# Altium schematic symbol library IC.SchLib: 63 symbols
Pins are listed as number, name and electrical type; pins without a type are passive.

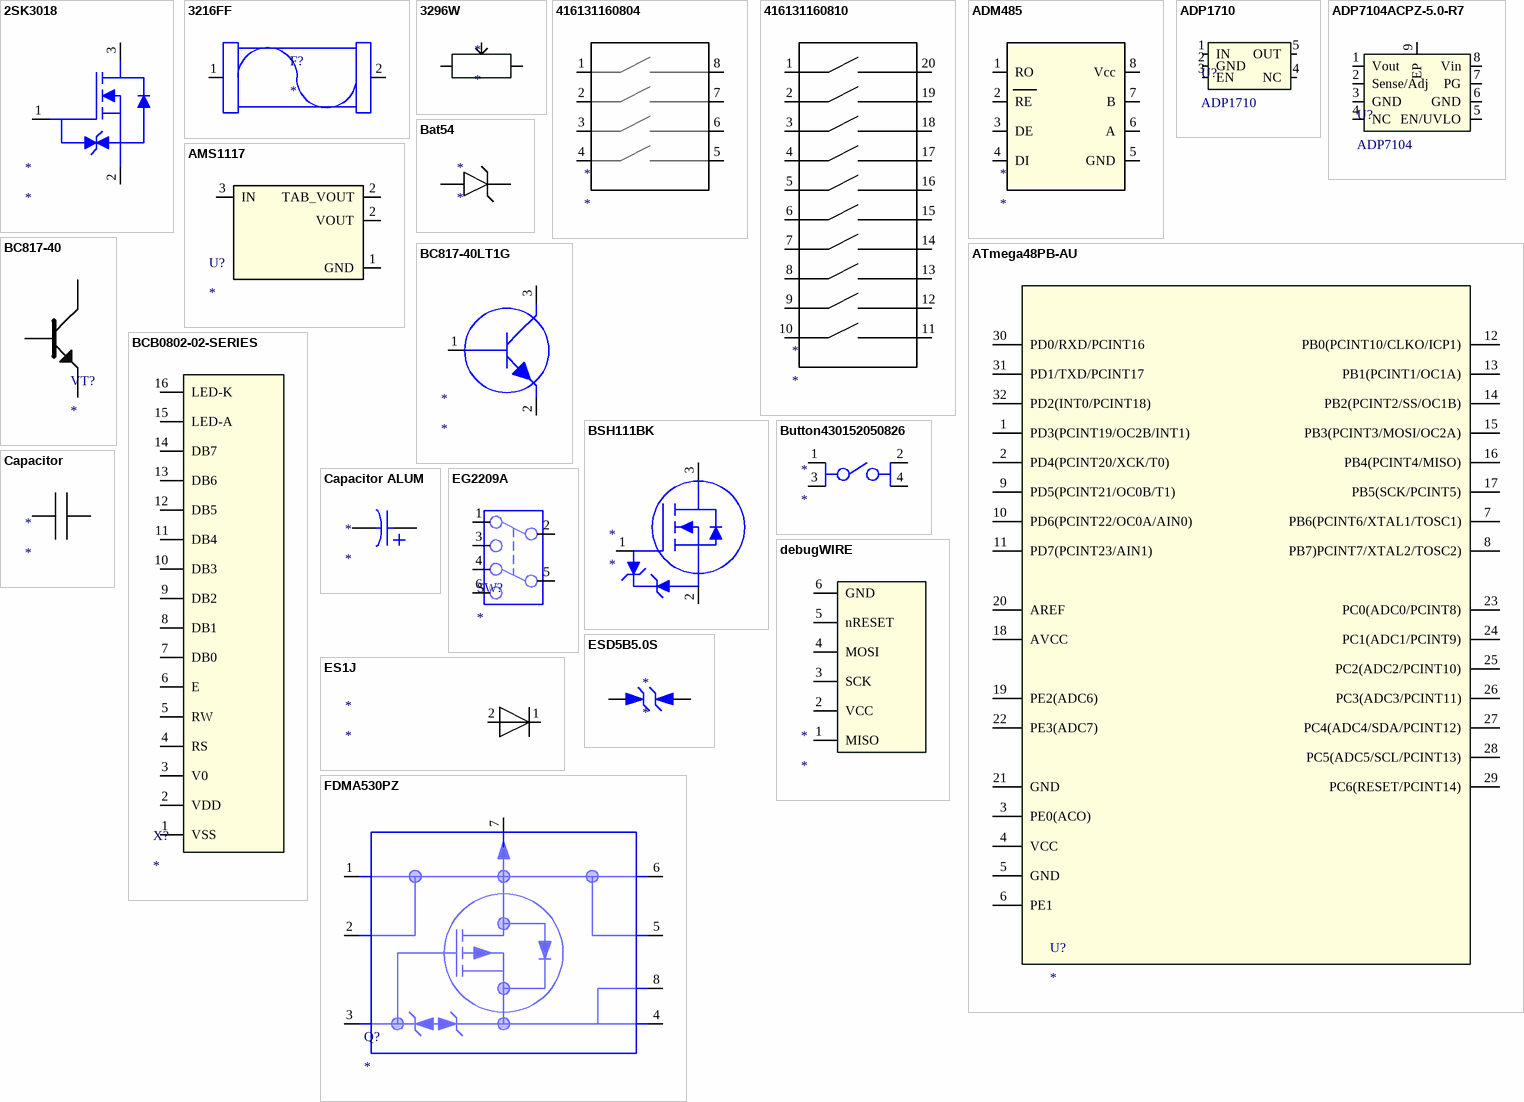
[diagram p0: symbols 2SK3018 to FDMA530PZ]

## 2SK3018
designator *
footprint SOT323 (SOT323, 3-Leads, Body 2,00x2,10mm, Pitch 0,65mm, IPC Medium Density)
pins: 1, 2, 3

## 3216FF
designator F?
footprint 3216FF5-R
pins: 1, 2

## 3296W
designator *
footprint 3296W
pins: 1 a, 2 a, 3 a

## 416131160804
designator *
footprint 416131160804
pins: 1, 2, 3, 4, 5, 6, 7, 8

## 416131160810
designator *
footprint 416131160810
pins: 1, 2, 3, 4, 5, 6, 7, 8, 9, 10, 11, 12, 13, 14, 15, 16, 17, 18, 19, 20

## ADM485
designator *
footprint SO-8
pins: 1 RO, 2 RE, 3 DE, 4 DI, 5 GND, 6 A, 7 B, 8 Vcc

## ADP1710
designator U?
CMOS Linear Regulator
footprint TSOT-5
pins: 1 IN, 2 GND, 3 EN, 4 NC, 5 OUT

## ADP7104ACPZ-5.0-R7
designator U?, comment ADP7104
footprint 8-Lead LFCSP_WD (SON, 8-Leads, Body 3x3mm, Pitch 0.5mm, Thermal Pad 1.74x2.38mm)
pins: 1 Vout, 2 Sense/Adj, 3 GND, 4 NC, 5 EN/UVLO, 6 GND, 7 PG, 8 Vin, 9 EP

## AMS1117
designator U?
footprint SOT223
pins: 1 GND, 2 VOUT, 2 TAB_VOUT, 3 IN

## ATmega48PB-AU
designator U?
footprint TQFP32 (Thin QFP, 32-Leads, Body 7x7mm, Pitch 0.8mm, IPC Low Density)
pins: 1 PD3(PCINT19/OC2B/INT1) "(PCINT19/OC2B/INT1)PD3", 2 PD4(PCINT20/XCK/T0), 3 PE0(ACO), 4 VCC, 5 GND, 6 PE1, 7 PB6(PCINT6/XTAL1/TOSC1), 8 PB7)PCINT7/XTAL2/TOSC2), 9 PD5(PCINT21/OC0B/T1), 10 PD6(PCINT22/OC0A/AIN0), 11 PD7(PCINT23/AIN1), 12 PB0(PCINT10/CLKO/ICP1), 13 PB1(PCINT1/OC1A), 14 PB2(PCINT2/SS/OC1B), 15 PB3(PCINT3/MOSI/OC2A), 16 PB4(PCINT4/MISO), 17 PB5(SCK/PCINT5), 18 AVCC, 19 PE2(ADC6), 20 AREF, 21 GND, 22 PE3(ADC7), 23 PC0(ADC0/PCINT8), 24 PC1(ADC1/PCINT9), 25 PC2(ADC2/PCINT10), 26 PC3(ADC3/PCINT11), 27 PC4(ADC4/SDA/PCINT12), 28 PC5(ADC5/SCL/PCINT13), 29 PC6(RESET/PCINT14), 30 PD0/RXD/PCINT16, 31 PD1/TXD/PCINT17, 32 PD2(INT0/PCINT18)

## Bat54
designator *
footprint SOT23-3 (SOT23, 3 pin)
pins: 1 3, 3 4

## BC817-40
designator VT?
footprint SOT23-3 (SOT23, 3 pin)
pins: 1 BASE, 2 Emitter, 3 Collector

## BC817-40LT1G
designator *
footprint SOT23-3 (SOT23, 3 pin)
pins: 1 BASE, 2 EMITTER, 3 COLLECTOR

## BCB0802-02-SERIES
designator X?
footprint Blaze display
pins: 1 VSS, 2 VDD, 3 V0, 4 RS, 5 RW, 6 E, 7 DB0, 8 DB1, 9 DB2, 10 DB3, 11 DB4, 12 DB5, 13 DB6, 14 DB7, 15 LED-A, 16 LED-K

## BSH111BK
designator *
footprint SOT23-3 (SOT23, 3 pin)
pins: 1, 2, 3

## Button430152050826
designator *
footprint WS-TASV SMT TACT SWITCH
pins: 1, 2, 3, 4

## Capacitor
designator *
footprint Cap0603
footprint Cap1210
footprint Cap0805
footprint Cap1206
footprint T495C686M016ATE250
footprint cap0402
pins: 1, 2

## Capacitor ALUM
designator *
footprint EEE-1EA471UAP
footprint T495C686M016ZTE250
pins: 1, 2

## debugWIRE
designator *
footprint debugWIRE
pins: 1 MISO, 2 VCC, 3 SCK, 4 MOSI, 5 nRESET, 6 GND

## EG2209A
designator SW?
footprint EG 2209
pins: 1, 2, 3, 4, 5, 6

## ES1J
designator *
footprint ES1J
pins: 1 C, 2 A

## ESD5B5.0S
designator *
footprint SOD-523
pins: A 2, C 1

## FDMA530PZ
designator Q?
footprint WDFN6
pins: 1, 2, 3, 4, 5, 6, 7, 8

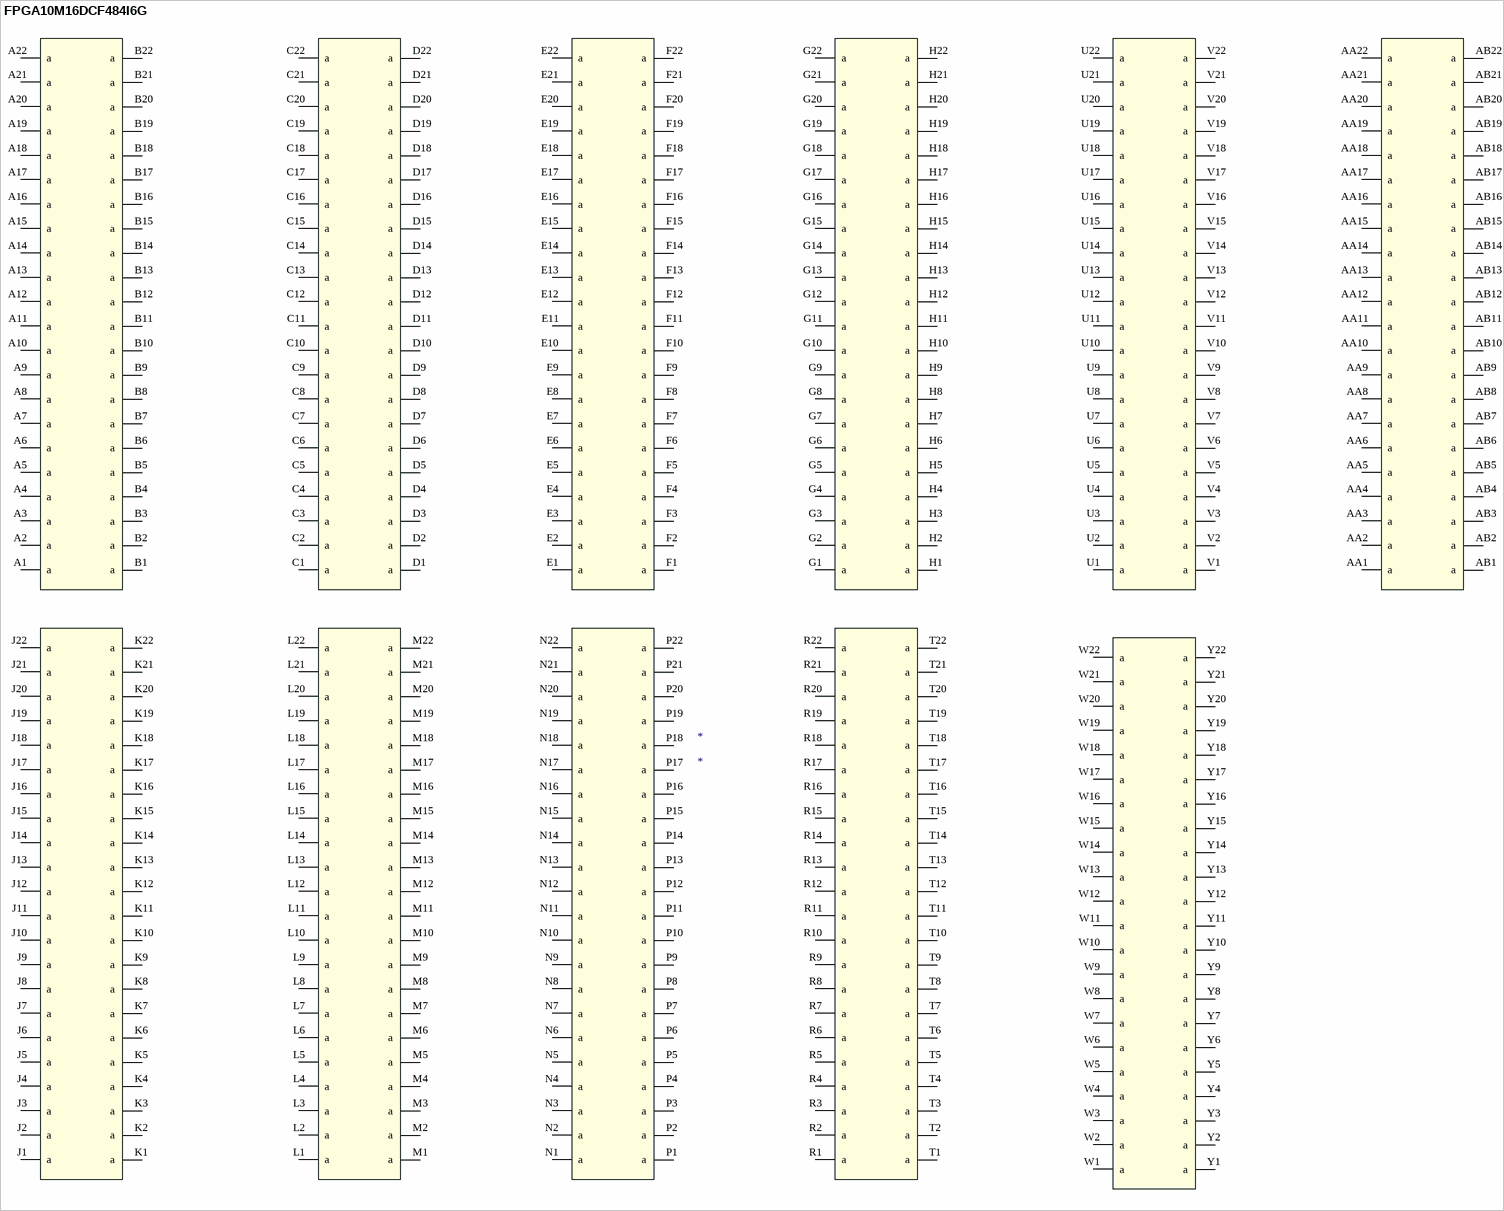
[diagram p1: symbol FPGA10M16DCF484I6G]

## FPGA10M16DCF484I6G
designator *
footprint 484-Pin FBGA
pins: A1 a, A2 a, A3 a, A4 a, A5 a, A6 a, A7 a, A8 a, A9 a, A10 a, A11 a, A12 a, A13 a, A14 a, A15 a, A16 a, A17 a, A18 a, A19 a, A20 a, A21 a, A22 a, AA1 a, AA2 a, AA3 a, AA4 a, AA5 a, AA6 a, AA7 a, AA8 a, AA9 a, AA10 a, AA11 a, AA12 a, AA13 a, AA14 a, AA15 a, AA16 a, AA17 a, AA18 a, AA19 a, AA20 a, AA21 a, AA22 a, AB1 a, AB2 a, AB3 a, AB4 a, AB5 a, AB6 a, AB7 a, AB8 a, AB9 a, AB10 a, AB11 a, AB12 a, AB13 a, AB14 a, AB15 a, AB16 a, AB17 a, AB18 a, AB19 a, AB20 a, AB21 a, AB22 a, B1 a, B2 a, B3 a, B4 a, B5 a, B6 a, B7 a, B8 a, B9 a, B10 a, B11 a, B12 a, B13 a, B14 a, B15 a, B16 a, B17 a, B18 a, B19 a, B20 a, B21 a, B22 a, C1 a, C2 a, C3 a, C4 a, C5 a, C6 a, C7 a, C8 a, C9 a, C10 a, C11 a, C12 a, C13 a, C14 a, C15 a, C16 a, C17 a, C18 a, C19 a, C20 a, C21 a, C22 a, D1 a, D2 a, D3 a, D4 a, D5 a, D6 a, D7 a, D8 a, D9 a, D10 a, D11 a, D12 a, D13 a, D14 a, D15 a, D16 a, D17 a, D18 a, D19 a, D20 a, D21 a, D22 a, E1 a, E2 a, E3 a, E4 a, E5 a, E6 a, E7 a, E8 a, E9 a, E10 a, E11 a, E12 a, E13 a, E14 a, E15 a, E16 a, E17 a, E18 a, E19 a, E20 a, E21 a, E22 a, F1 a, F2 a, F3 a, F4 a, F5 a, F6 a, F7 a, F8 a, F9 a, F10 a, F11 a, F12 a, F13 a, F14 a, F15 a, F16 a, F17 a, F18 a, F19 a, F20 a, F21 a, F22 a, G1 a, G2 a, G3 a, G4 a, G5 a, G6 a, G7 a, G8 a, G9 a, G10 a, G11 a, G12 a, G13 a, G14 a, G15 a, G16 a, G17 a, G18 a, G19 a, G20 a, G21 a, G22 a, H1 a, H2 a, H3 a, H4 a, H5 a, H6 a, H7 a, H8 a, H9 a, H10 a, H11 a, H12 a, H13 a, H14 a, H15 a, H16 a, H17 a, H18 a, H19 a, H20 a, H21 a, H22 a, J1 a, J2 a, J3 a, J4 a, J5 a, J6 a, J7 a, J8 a, J9 a, J10 a, J11 a, J12 a, J13 a, J14 a, J15 a, J16 a, J17 a, J18 a, J19 a, J20 a, J21 a, J22 a, K1 a, K2 a, K3 a, K4 a, K5 a, K6 a, K7 a, K8 a, K9 a, K10 a, K11 a, K12 a, K13 a, K14 a, K15 a, K16 a, K17 a, K18 a, K19 a, K20 a, K21 a, K22 a, L1 a, L2 a, L3 a, L4 a, L5 a, L6 a, L7 a, L8 a, L9 a, L10 a, L11 a, L12 a, L13 a, L14 a, L15 a, L16 a, L17 a, L18 a, L19 a, L20 a, L21 a, L22 a, M1 a, M2 a, M3 a, M4 a, M5 a, M6 a, M7 a, M8 a, M9 a, M10 a, M11 a, M12 a, M13 a, M14 a, M15 a, M16 a, M17 a, M18 a, M19 a, M20 a, M21 a, M22 a, N1 a, N2 a, N3 a, N4 a, N5 a, N6 a, N7 a, N8 a, N9 a, N10 a, N11 a, N12 a, N13 a, N14 a, N15 a, N16 a, N17 a, N18 a, N19 a, N20 a, N21 a, N22 a, P1 a, P2 a, P3 a, P4 a, P5 a, P6 a, P7 a, P8 a, P9 a, P10 a, P11 a, P12 a, P13 a, P14 a, P15 a, P16 a, P17 a, P18 a, P19 a, P20 a, P21 a, P22 a, R1 a, R2 a, R3 a, R4 a, R5 a, R6 a, R7 a, R8 a, R9 a, R10 a, R11 a, R12 a, R13 a, R14 a, R15 a, R16 a, R17 a, R18 a, R19 a, R20 a, R21 a, R22 a, T1 a, T2 a, T3 a, T4 a, T5 a, T6 a, T7 a, T8 a, T9 a, T10 a, T11 a, T12 a, T13 a, T14 a, T15 a, T16 a, T17 a, T18 a, T19 a, T20 a, T21 a, T22 a, U1 a, U2 a, U3 a, U4 a, U5 a, U6 a, U7 a, U8 a, U9 a, U10 a, U11 a, U12 a, U13 a, U14 a, U15 a, U16 a, U17 a, U18 a, U19 a, U20 a, U21 a, U22 a, V1 a, V2 a, V3 a, V4 a, V5 a, V6 a, V7 a, V8 a, V9 a, V10 a, V11 a, V12 a, V13 a, V14 a, V15 a, V16 a, V17 a, V18 a, V19 a, V20 a, V21 a, V22 a, W1 a, W2 a, W3 a, W4 a, W5 a, W6 a, W7 a, W8 a, W9 a, W10 a, W11 a, W12 a, W13 a, W14 a, W15 a, W16 a, W17 a, W18 a, W19 a, W20 a, W21 a, W22 a, Y1 a, Y2 a, Y3 a, Y4 a, Y5 a, Y6 a, Y7 a, Y8 a, Y9 a, Y10 a, Y11 a, Y12 a, Y13 a, Y14 a, Y15 a, Y16 a, Y17 a, Y18 a, Y19 a, Y20 a, Y21 a, Y22 a

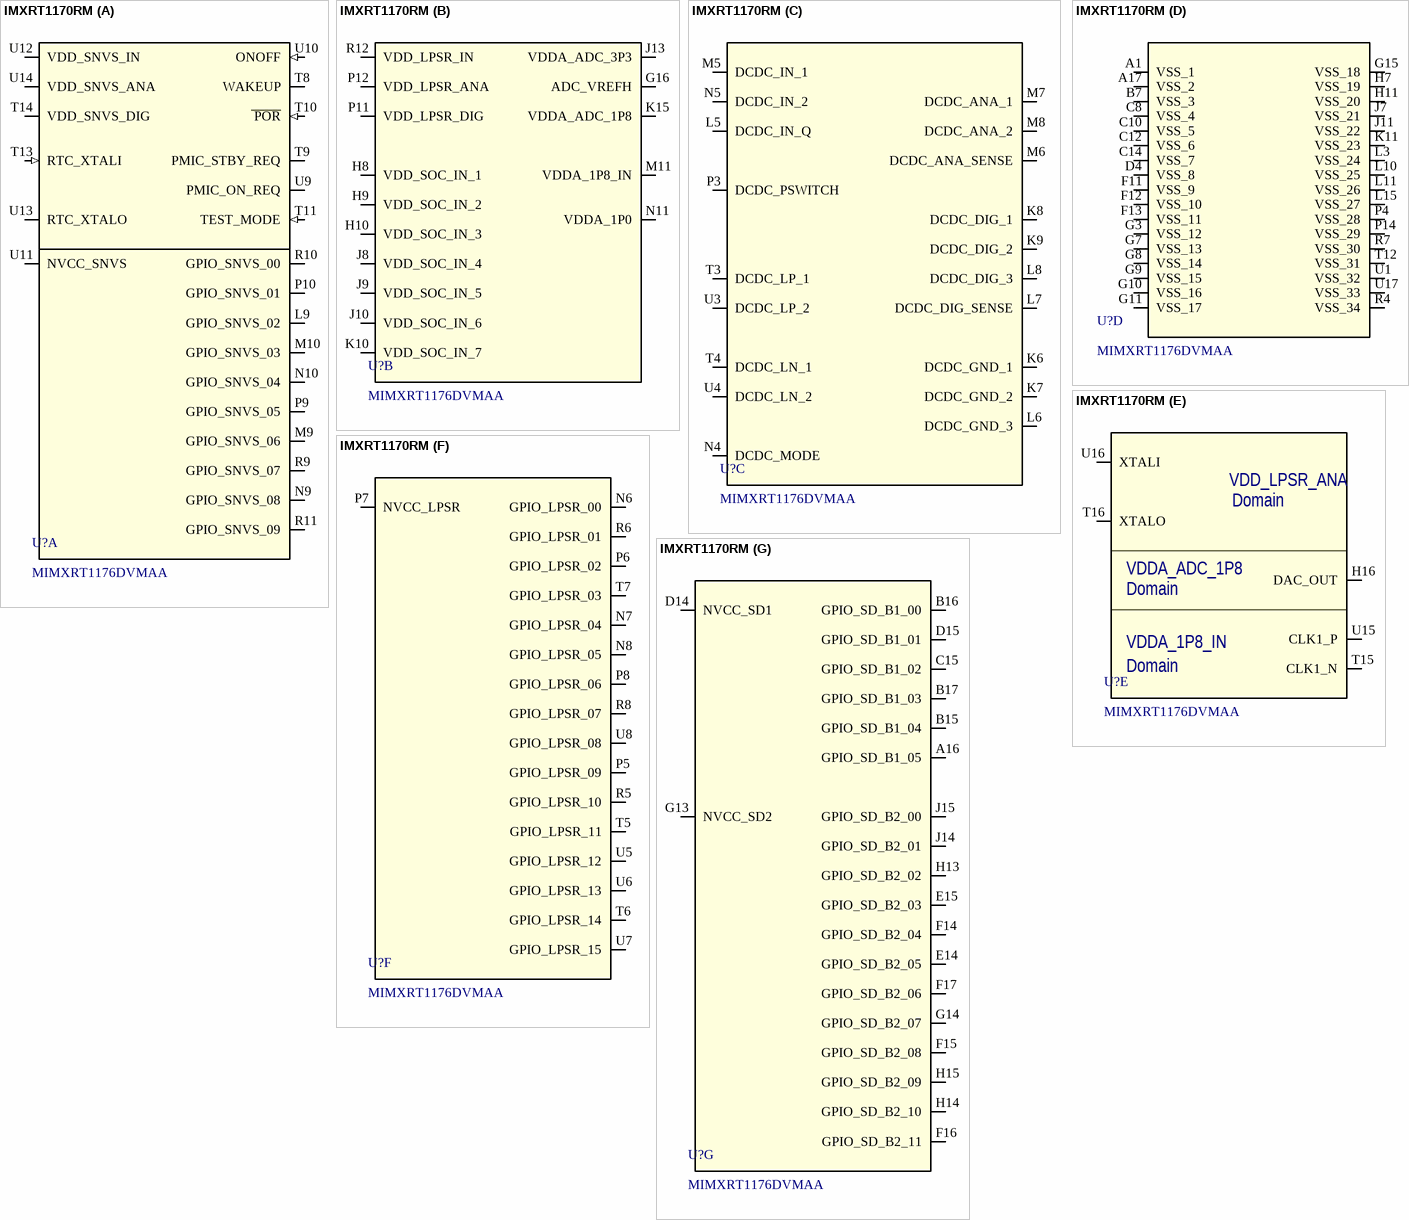
[diagram p2: symbol IMXRT1170RM]

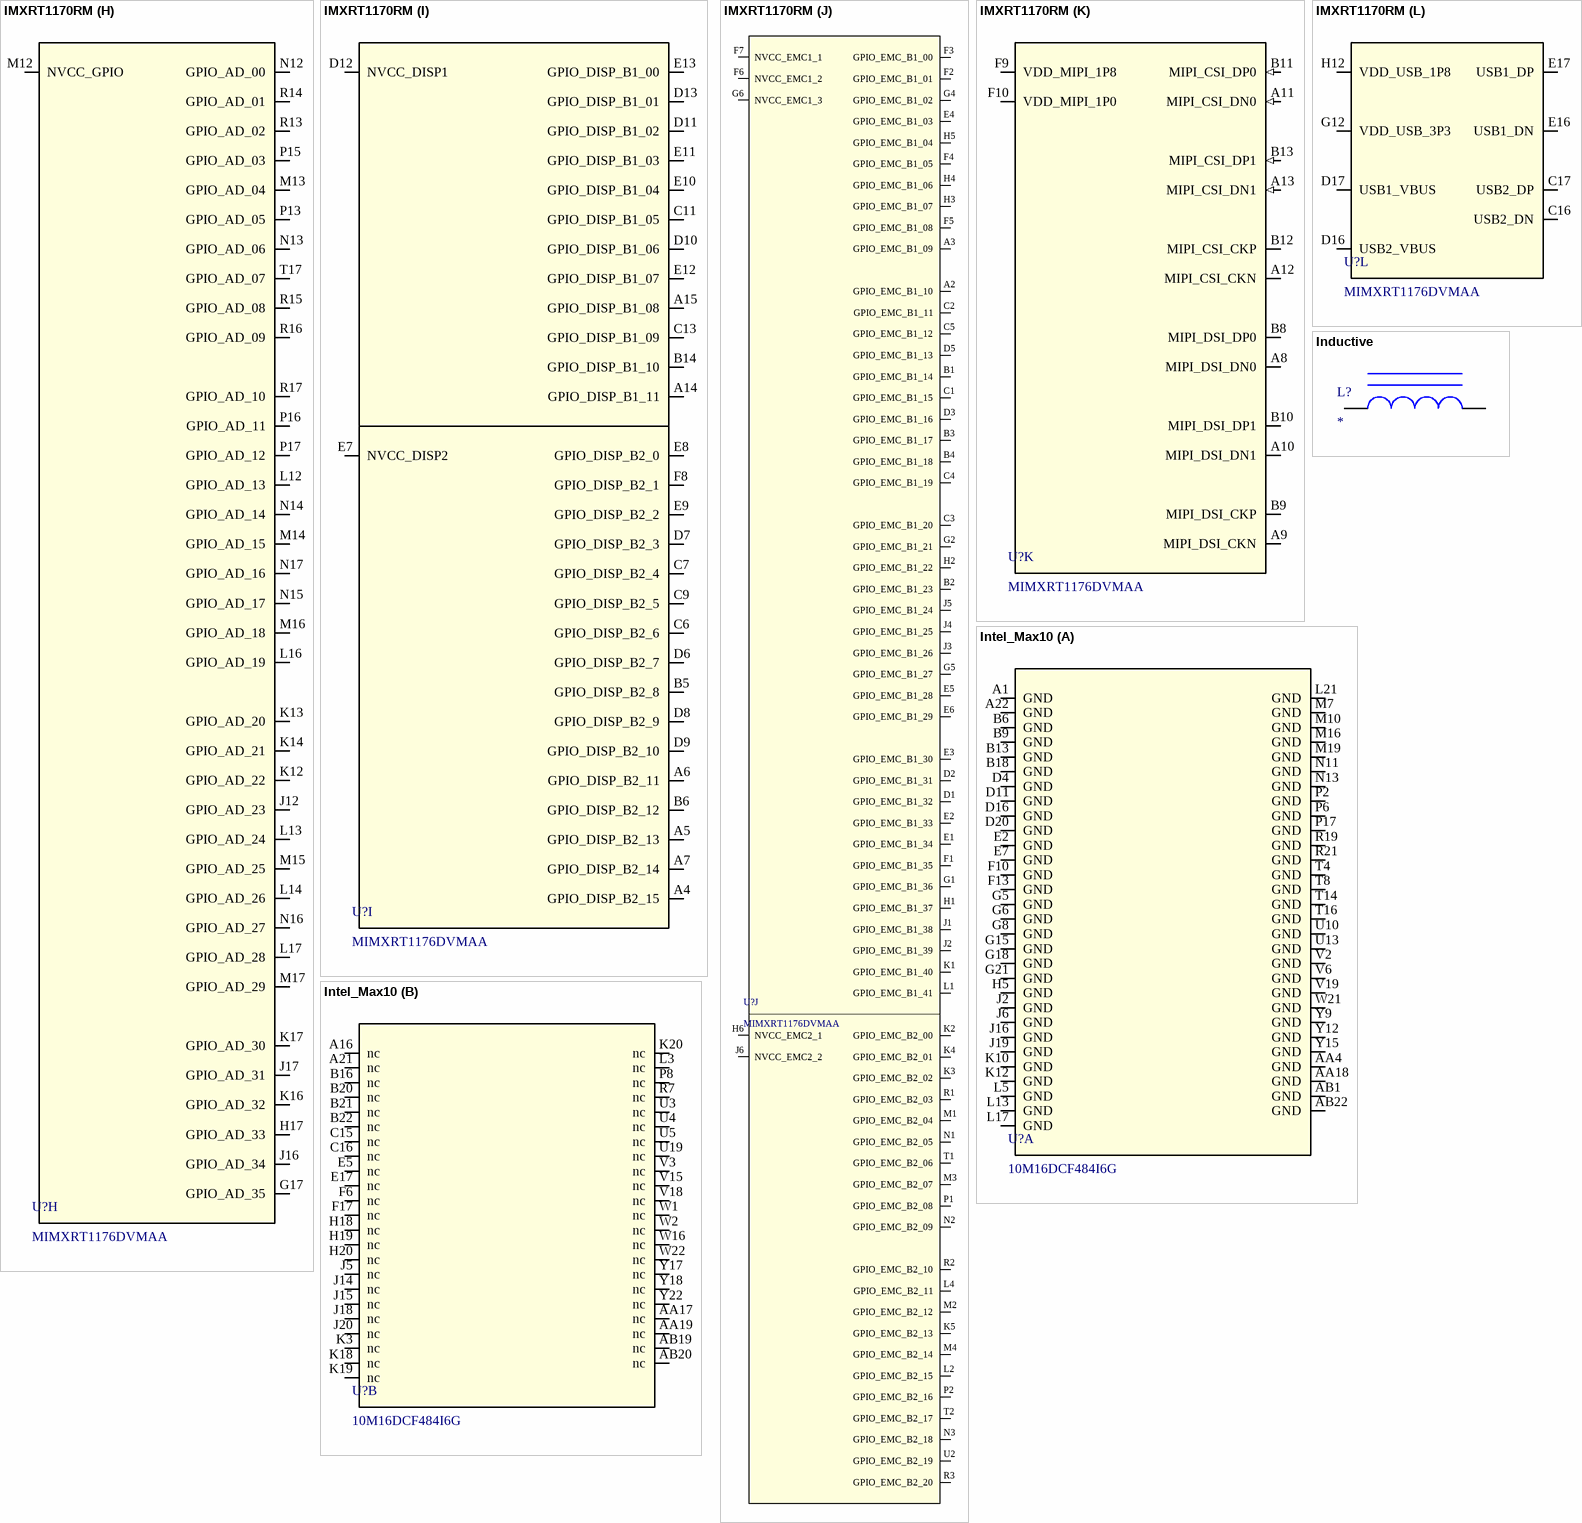
[diagram p3: symbols IMXRT1170RM to Intel_Max10]

## IMXRT1170RM
designator U?, comment MIMXRT1176DVMAA
footprint LFBGA289
part A pins: L9 GPIO_SNVS_02, M9 GPIO_SNVS_06, M10 GPIO_SNVS_03, N9 GPIO_SNVS_08, N10 GPIO_SNVS_04, P9 GPIO_SNVS_05, P10 GPIO_SNVS_01, R9 GPIO_SNVS_07, R10 GPIO_SNVS_00, R11 GPIO_SNVS_09, T8 WAKEUP, T9 PMIC_STBY_REQ, T10 POR (in), T11 TEST_MODE (in), T13 RTC_XTALI (in), T14 VDD_SNVS_DIG, U9 PMIC_ON_REQ, U10 ONOFF (in), U11 NVCC_SNVS, U12 VDD_SNVS_IN, U13 RTC_XTALO, U14 VDD_SNVS_ANA
part B pins: G16 ADC_VREFH, H8 VDD_SOC_IN_1, H9 VDD_SOC_IN_2, H10 VDD_SOC_IN_3, J8 VDD_SOC_IN_4, J9 VDD_SOC_IN_5, J10 VDD_SOC_IN_6, J13 VDDA_ADC_3P3, K10 VDD_SOC_IN_7, K15 VDDA_ADC_1P8, M11 VDDA_1P8_IN, N11 VDDA_1P0, P11 VDD_LPSR_DIG, P12 VDD_LPSR_ANA, R12 VDD_LPSR_IN
part C pins: K6 DCDC_GND_1, K7 DCDC_GND_2, K8 DCDC_DIG_1, K9 DCDC_DIG_2, L5 DCDC_IN_Q, L6 DCDC_GND_3, L7 DCDC_DIG_SENSE, L8 DCDC_DIG_3, M5 DCDC_IN_1, M6 DCDC_ANA_SENSE, M7 DCDC_ANA_1, M8 DCDC_ANA_2, N4 DCDC_MODE, N5 DCDC_IN_2, P3 DCDC_PSWITCH, T3 DCDC_LP_1, T4 DCDC_LN_1, U3 DCDC_LP_2, U4 DCDC_LN_2
part D pins: A1 VSS_1, A17 VSS_2, B7 VSS_3, C8 VSS_4, C10 VSS_5, C12 VSS_6, C14 VSS_7, D4 VSS_8, F11 VSS_9, F12 VSS_10, F13 VSS_11, G3 VSS_12, G7 VSS_13, G8 VSS_14, G9 VSS_15, G10 VSS_16, G11 VSS_17, G15 VSS_18, H7 VSS_19, H11 VSS_20, J7 VSS_21, J11 VSS_22, K11 VSS_23, L3 VSS_24, L10 VSS_25, L11 VSS_26, L15 VSS_27, P4 VSS_28, P14 VSS_29, R4 VSS_34, R7 VSS_30, T12 VSS_31, U1 VSS_32, U17 VSS_33
part E pins: H16 DAC_OUT, T15 CLK1_N, T16 XTALO, U15 CLK1_P, U16 XTALI
part F pins: N6 GPIO_LPSR_00, N7 GPIO_LPSR_04, N8 GPIO_LPSR_05, P5 GPIO_LPSR_09, P6 GPIO_LPSR_02, P7 NVCC_LPSR, P8 GPIO_LPSR_06, R5 GPIO_LPSR_10, R6 GPIO_LPSR_01, R8 GPIO_LPSR_07, T5 GPIO_LPSR_11, T6 GPIO_LPSR_14, T7 GPIO_LPSR_03, U5 GPIO_LPSR_12, U6 GPIO_LPSR_13, U7 GPIO_LPSR_15, U8 GPIO_LPSR_08
part G pins: A16 GPIO_SD_B1_05, B15 GPIO_SD_B1_04, B16 GPIO_SD_B1_00, B17 GPIO_SD_B1_03, C15 GPIO_SD_B1_02, D14 NVCC_SD1, D15 GPIO_SD_B1_01, E14 GPIO_SD_B2_05, E15 GPIO_SD_B2_03, F14 GPIO_SD_B2_04, F15 GPIO_SD_B2_08, F16 GPIO_SD_B2_11, F17 GPIO_SD_B2_06, G13 NVCC_SD2, G14 GPIO_SD_B2_07, H13 GPIO_SD_B2_02, H14 GPIO_SD_B2_10, H15 GPIO_SD_B2_09, J14 GPIO_SD_B2_01, J15 GPIO_SD_B2_00
part H pins: G17 GPIO_AD_35, H17 GPIO_AD_33, J12 GPIO_AD_23, J16 GPIO_AD_34, J17 GPIO_AD_31, K12 GPIO_AD_22, K13 GPIO_AD_20, K14 GPIO_AD_21, K16 GPIO_AD_32, K17 GPIO_AD_30, L12 GPIO_AD_13, L13 GPIO_AD_24, L14 GPIO_AD_26, L16 GPIO_AD_19, L17 GPIO_AD_28, M12 NVCC_GPIO, M13 GPIO_AD_04, M14 GPIO_AD_15, M15 GPIO_AD_25, M16 GPIO_AD_18, M17 GPIO_AD_29, N12 GPIO_AD_00, N13 GPIO_AD_06, N14 GPIO_AD_14, N15 GPIO_AD_17, N16 GPIO_AD_27, N17 GPIO_AD_16, P13 GPIO_AD_05, P15 GPIO_AD_03, P16 GPIO_AD_11, P17 GPIO_AD_12, R13 GPIO_AD_02, R14 GPIO_AD_01, R15 GPIO_AD_08, R16 GPIO_AD_09, R17 GPIO_AD_10, T17 GPIO_AD_07
part I pins: A4 GPIO_DISP_B2_15, A5 GPIO_DISP_B2_13, A6 GPIO_DISP_B2_11, A7 GPIO_DISP_B2_14, A14 GPIO_DISP_B1_11, A15 GPIO_DISP_B1_08, B5 GPIO_DISP_B2_8, B6 GPIO_DISP_B2_12, B14 GPIO_DISP_B1_10, C6 GPIO_DISP_B2_6, C7 GPIO_DISP_B2_4, C9 GPIO_DISP_B2_5, C11 GPIO_DISP_B1_05, C13 GPIO_DISP_B1_09, D6 GPIO_DISP_B2_7, D7 GPIO_DISP_B2_3, D8 GPIO_DISP_B2_9, D9 GPIO_DISP_B2_10, D10 GPIO_DISP_B1_06, D11 GPIO_DISP_B1_02, D12 NVCC_DISP1, D13 GPIO_DISP_B1_01, E7 NVCC_DISP2, E8 GPIO_DISP_B2_0, E9 GPIO_DISP_B2_2, E10 GPIO_DISP_B1_04, E11 GPIO_DISP_B1_03, E12 GPIO_DISP_B1_07, E13 GPIO_DISP_B1_00, F8 GPIO_DISP_B2_1
part J pins: A2 GPIO_EMC_B1_10, A3 GPIO_EMC_B1_09, B1 GPIO_EMC_B1_14, B2 GPIO_EMC_B1_23, B3 GPIO_EMC_B1_17, B4 GPIO_EMC_B1_18, C1 GPIO_EMC_B1_15, C2 GPIO_EMC_B1_11, C3 GPIO_EMC_B1_20, C4 GPIO_EMC_B1_19, C5 GPIO_EMC_B1_12, D1 GPIO_EMC_B1_32, D2 GPIO_EMC_B1_31, D3 GPIO_EMC_B1_16, D5 GPIO_EMC_B1_13, E1 GPIO_EMC_B1_34, E2 GPIO_EMC_B1_33, E3 GPIO_EMC_B1_30, E4 GPIO_EMC_B1_03, E5 GPIO_EMC_B1_28, E6 GPIO_EMC_B1_29, F1 GPIO_EMC_B1_35, F2 GPIO_EMC_B1_01, F3 GPIO_EMC_B1_00, F4 GPIO_EMC_B1_05, F5 GPIO_EMC_B1_08, F6 NVCC_EMC1_2, F7 NVCC_EMC1_1, G1 GPIO_EMC_B1_36, G2 GPIO_EMC_B1_21, G4 GPIO_EMC_B1_02, G5 GPIO_EMC_B1_27, G6 NVCC_EMC1_3, H1 GPIO_EMC_B1_37, H2 GPIO_EMC_B1_22, H3 GPIO_EMC_B1_07, H4 GPIO_EMC_B1_06, H5 GPIO_EMC_B1_04, H6 NVCC_EMC2_1, J1 GPIO_EMC_B1_38, J2 GPIO_EMC_B1_39, J3 GPIO_EMC_B1_26, J4 GPIO_EMC_B1_25, J5 GPIO_EMC_B1_24, J6 NVCC_EMC2_2, K1 GPIO_EMC_B1_40, K2 GPIO_EMC_B2_00, K3 GPIO_EMC_B2_02, K4 GPIO_EMC_B2_01, K5 GPIO_EMC_B2_13, L1 GPIO_EMC_B1_41, L2 GPIO_EMC_B2_15, L4 GPIO_EMC_B2_11, M1 GPIO_EMC_B2_04, M2 GPIO_EMC_B2_12, M3 GPIO_EMC_B2_07, M4 GPIO_EMC_B2_14, N1 GPIO_EMC_B2_05, N2 GPIO_EMC_B2_09, N3 GPIO_EMC_B2_18, P1 GPIO_EMC_B2_08, P2 GPIO_EMC_B2_16, R1 GPIO_EMC_B2_03, R2 GPIO_EMC_B2_10, R3 GPIO_EMC_B2_20, T1 GPIO_EMC_B2_06, T2 GPIO_EMC_B2_17, U2 GPIO_EMC_B2_19
part K pins: A8 MIPI_DSI_DN0, A9 MIPI_DSI_CKN, A10 MIPI_DSI_DN1, A11 MIPI_CSI_DN0 (in), A12 MIPI_CSI_CKN, A13 MIPI_CSI_DN1 (in), B8 MIPI_DSI_DP0, B9 MIPI_DSI_CKP, B10 MIPI_DSI_DP1, B11 MIPI_CSI_DP0 (in), B12 MIPI_CSI_CKP, B13 MIPI_CSI_DP1 (in), F9 VDD_MIPI_1P8, F10 VDD_MIPI_1P0
part L pins: C16 USB2_DN, C17 USB2_DP, D16 USB2_VBUS, D17 USB1_VBUS, E16 USB1_DN, E17 USB1_DP, G12 VDD_USB_3P3, H12 VDD_USB_1P8
part E text: Domain

## Inductive
designator L?
footprint MLZ2012
footprint SPM3012
footprint BLM15AG121SN1D
footprint SWPA4020S1R0NT
pins: 1, 2

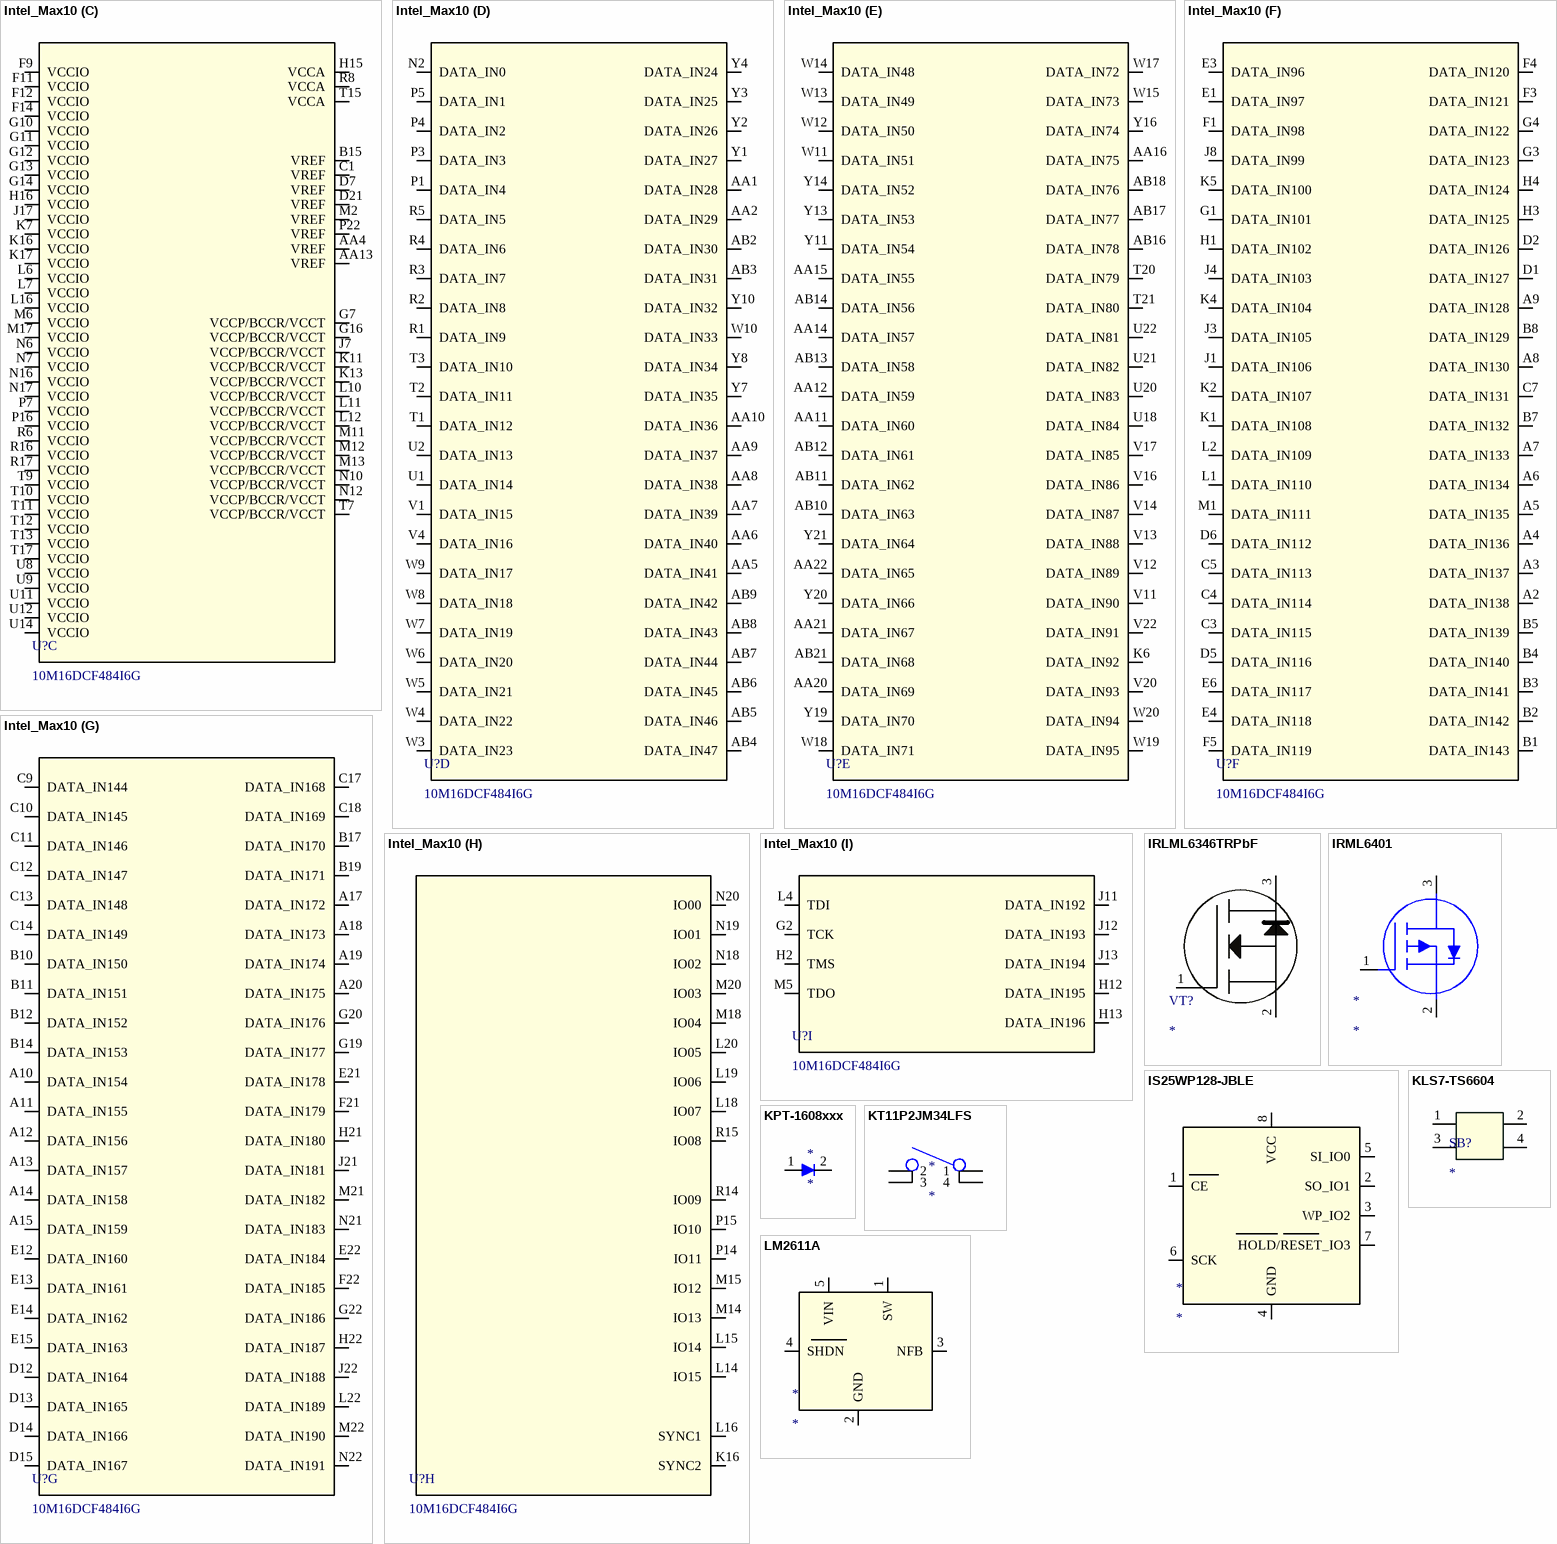
[diagram p4: symbols Intel_Max10 to LM2611A]

## Intel_Max10
designator U?, comment 10M16DCF484I6G
footprint 484-Pin FBGA
part A pins: A1 GND, A22 GND, AA4 GND, AA18 GND, AB1 GND, AB22 GND, B6 GND, B9 GND, B13 GND, B18 GND, D4 GND, D11 GND, D16 GND, D20 GND, E2 GND, E7 GND, F10 GND, F13 GND, G5 GND, G6 GND, G8 GND, G15 GND, G18 GND, G21 GND, H5 GND, J2 GND, J6 GND, J16 GND, J19 GND, K10 GND, K12 GND, L5 GND, L13 GND, L17 GND, L21 GND, M7 GND, M10 GND, M16 GND, M19 GND, N11 GND, N13 GND, P2 GND, P6 GND, P17 GND, R19 GND, R21 GND, T4 GND, T8 GND, T14 GND, T16 GND, U10 GND, U13 GND, V2 GND, V6 GND, V19 GND, W21 GND, Y9 GND, Y12 GND, Y15 GND
part B pins: A16 nc, A21 nc, AA17 nc, AA19 nc, AB19 nc, AB20 nc, B16 nc, B20 nc, B21 nc, B22 nc, C15 nc, C16 nc, E5 nc, E17 nc, F6 nc, F17 nc, H18 nc, H19 nc, H20 nc, J5 nc, J14 nc, J15 nc, J18 nc, J20 nc, K3 nc, K18 nc, K19 nc, K20 nc, L3 nc, P8 nc, R7 nc, U3 nc, U4 nc, U5 nc, U19 nc, V3 nc, V15 nc, V18 nc, W1 nc, W2 nc, W16 nc, W22 nc, Y17 nc, Y18 nc, Y22 nc
part C pins: AA4 VREF, AA13 VREF, B15 VREF, C1 VREF, D7 VREF, D21 VREF, F9 VCCIO, F11 VCCIO, F12 VCCIO, F14 VCCIO, G7 VCCP/BCCR/VCCT, G10 VCCIO, G11 VCCIO, G12 VCCIO, G13 VCCIO, G14 VCCIO, G16 VCCP/BCCR/VCCT, H15 VCCA, H16 VCCIO, J7 VCCP/BCCR/VCCT, J17 VCCIO, K7 VCCIO, K11 VCCP/BCCR/VCCT, K13 VCCP/BCCR/VCCT, K16 VCCIO, K17 VCCIO, L6 VCCIO, L7 VCCIO, L10 VCCP/BCCR/VCCT, L11 VCCP/BCCR/VCCT, L12 VCCP/BCCR/VCCT, L16 VCCIO, M2 VREF, M6 VCCIO, M11 VCCP/BCCR/VCCT, M12 VCCP/BCCR/VCCT, M13 VCCP/BCCR/VCCT, M17 VCCIO, N6 VCCIO, N7 VCCIO, N10 VCCP/BCCR/VCCT, N12 VCCP/BCCR/VCCT, N16 VCCIO, N17 VCCIO, P7 VCCIO, P16 VCCIO, P22 VREF, R6 VCCIO, R8 VCCA, R16 VCCIO, R17 VCCIO, T7 VCCP/BCCR/VCCT, T9 VCCIO, T10 VCCIO, T11 VCCIO, T12 VCCIO, T13 VCCIO, T15 VCCA, T17 VCCIO, U8 VCCIO, U9 VCCIO, U11 VCCIO, U12 VCCIO, U14 VCCIO
part D pins: AA1 DATA_IN28, AA2 DATA_IN29, AA5 DATA_IN41, AA6 DATA_IN40, AA7 DATA_IN39, AA8 DATA_IN38, AA9 DATA_IN37, AA10 DATA_IN36, AB2 DATA_IN30, AB3 DATA_IN31, AB4 DATA_IN47, AB5 DATA_IN46, AB6 DATA_IN45, AB7 DATA_IN44, AB8 DATA_IN43, AB9 DATA_IN42, N2 DATA_IN0, P1 DATA_IN4, P3 DATA_IN3, P4 DATA_IN2, P5 DATA_IN1, R1 DATA_IN9, R2 DATA_IN8, R3 DATA_IN7, R4 DATA_IN6, R5 DATA_IN5, T1 DATA_IN12, T2 DATA_IN11, T3 DATA_IN10, U1 DATA_IN14, U2 DATA_IN13, V1 DATA_IN15, V4 DATA_IN16, W3 DATA_IN23, W4 DATA_IN22, W5 DATA_IN21, W6 DATA_IN20, W7 DATA_IN19, W8 DATA_IN18, W9 DATA_IN17, W10 DATA_IN33, Y1 DATA_IN27, Y2 DATA_IN26, Y3 DATA_IN25, Y4 DATA_IN24, Y7 DATA_IN35, Y8 DATA_IN34, Y10 DATA_IN32
part E pins: AA11 DATA_IN60, AA12 DATA_IN59, AA14 DATA_IN57, AA15 DATA_IN55, AA16 DATA_IN75, AA20 DATA_IN69, AA21 DATA_IN67, AA22 DATA_IN65, AB10 DATA_IN63, AB11 DATA_IN62, AB12 DATA_IN61, AB13 DATA_IN58, AB14 DATA_IN56, AB16 DATA_IN78, AB17 DATA_IN77, AB18 DATA_IN76, AB21 DATA_IN68, K6 DATA_IN92, T20 DATA_IN79, T21 DATA_IN80, U18 DATA_IN84, U20 DATA_IN83, U21 DATA_IN82, U22 DATA_IN81, V11 DATA_IN90, V12 DATA_IN89, V13 DATA_IN88, V14 DATA_IN87, V16 DATA_IN86, V17 DATA_IN85, V20 DATA_IN93, V22 DATA_IN91, W11 DATA_IN51, W12 DATA_IN50, W13 DATA_IN49, W14 DATA_IN48, W15 DATA_IN73, W17 DATA_IN72, W18 DATA_IN71, W19 DATA_IN95, W20 DATA_IN94, Y11 DATA_IN54, Y13 DATA_IN53, Y14 DATA_IN52, Y16 DATA_IN74, Y19 DATA_IN70, Y20 DATA_IN66, Y21 DATA_IN64
part F pins: A2 DATA_IN138, A3 DATA_IN137, A4 DATA_IN136, A5 DATA_IN135, A6 DATA_IN134, A7 DATA_IN133, A8 DATA_IN130, A9 DATA_IN128, B1 DATA_IN143, B2 DATA_IN142, B3 DATA_IN141, B4 DATA_IN140, B5 DATA_IN139, B7 DATA_IN132, B8 DATA_IN129, C3 DATA_IN115, C4 DATA_IN114, C5 DATA_IN113, C7 DATA_IN131, D1 DATA_IN127, D2 DATA_IN126, D5 DATA_IN116, D6 DATA_IN112, E1 DATA_IN97, E3 DATA_IN96, E4 DATA_IN118, E6 DATA_IN117, F1 DATA_IN98, F3 DATA_IN121, F4 DATA_IN120, F5 DATA_IN119, G1 DATA_IN101, G3 DATA_IN123, G4 DATA_IN122, H1 DATA_IN102, H3 DATA_IN125, H4 DATA_IN124, J1 DATA_IN106, J3 DATA_IN105, J4 DATA_IN103, J8 DATA_IN99, K1 DATA_IN108, K2 DATA_IN107, K4 DATA_IN104, K5 DATA_IN100, L1 DATA_IN110, L2 DATA_IN109, M1 DATA_IN111
part G pins: A10 DATA_IN154, A11 DATA_IN155, A12 DATA_IN156, A13 DATA_IN157, A14 DATA_IN158, A15 DATA_IN159, A17 DATA_IN172, A18 DATA_IN173, A19 DATA_IN174, A20 DATA_IN175, B10 DATA_IN150, B11 DATA_IN151, B12 DATA_IN152, B14 DATA_IN153, B17 DATA_IN170, B19 DATA_IN171, C9 DATA_IN144, C10 DATA_IN145, C11 DATA_IN146, C12 DATA_IN147, C13 DATA_IN148, C14 DATA_IN149, C17 DATA_IN168, C18 DATA_IN169, D12 DATA_IN164, D13 DATA_IN165, D14 DATA_IN166, D15 DATA_IN167, E12 DATA_IN160, E13 DATA_IN161, E14 DATA_IN162, E15 DATA_IN163, E21 DATA_IN178, E22 DATA_IN184, F21 DATA_IN179, F22 DATA_IN185, G19 DATA_IN177, G20 DATA_IN176, G22 DATA_IN186, H21 DATA_IN180, H22 DATA_IN187, J21 DATA_IN181, J22 DATA_IN188, L22 DATA_IN189, M21 DATA_IN182, M22 DATA_IN190, N21 DATA_IN183, N22 DATA_IN191
part H pins: K16 SYNC2, L14 IO15, L15 IO14, L16 SYNC1, L18 IO07, L19 IO06, L20 IO05, M14 IO13, M15 IO12, M18 IO04, M20 IO03, N18 IO02, N19 IO01, N20 IO00, P14 IO11, P15 IO10, R14 IO09, R15 IO08
part I pins: G2 TCK, H2 TMS, H12 DATA_IN195, H13 DATA_IN196, J11 DATA_IN192, J12 DATA_IN193, J13 DATA_IN194, L4 TDI, M5 TDO

## IRLML6346TRPbF
designator VT?
footprint SOT23-3 (SOT23, 3 pin)
pins: 1 Gate, 2 Source, 3 Drain

## IRML6401
designator *
footprint SOT23-3 (SOT23, 3 pin)
pins: 1 GATE, 2 SOURCE, 3 DRAIN

## IS25WP128-JBLE
designator *
footprint SO-8
pins: 1 CE, 2 SO_IO1, 3 WP_IO2, 4 GND, 5 SI_IO0, 6 SCK, 7 HOLD/RESET_IO3, 8 VCC

## KLS7-TS6604
designator SB?
footprint KLS7-TS6604 (Button)
pins: 1, 2, 3, 4

## KPT-1608xxx
designator *
footprint KPT-2608SGC
pins: 1, 2

## KT11P2JM34LFS
designator *
footprint KT11P2JM34LFS
pins: 1, 2, 3, 4

## LM2611A
designator *
footprint SOT23-5
pins: 1 SW, 2 GND, 3 NFB, 4 SHDN, 5 VIN

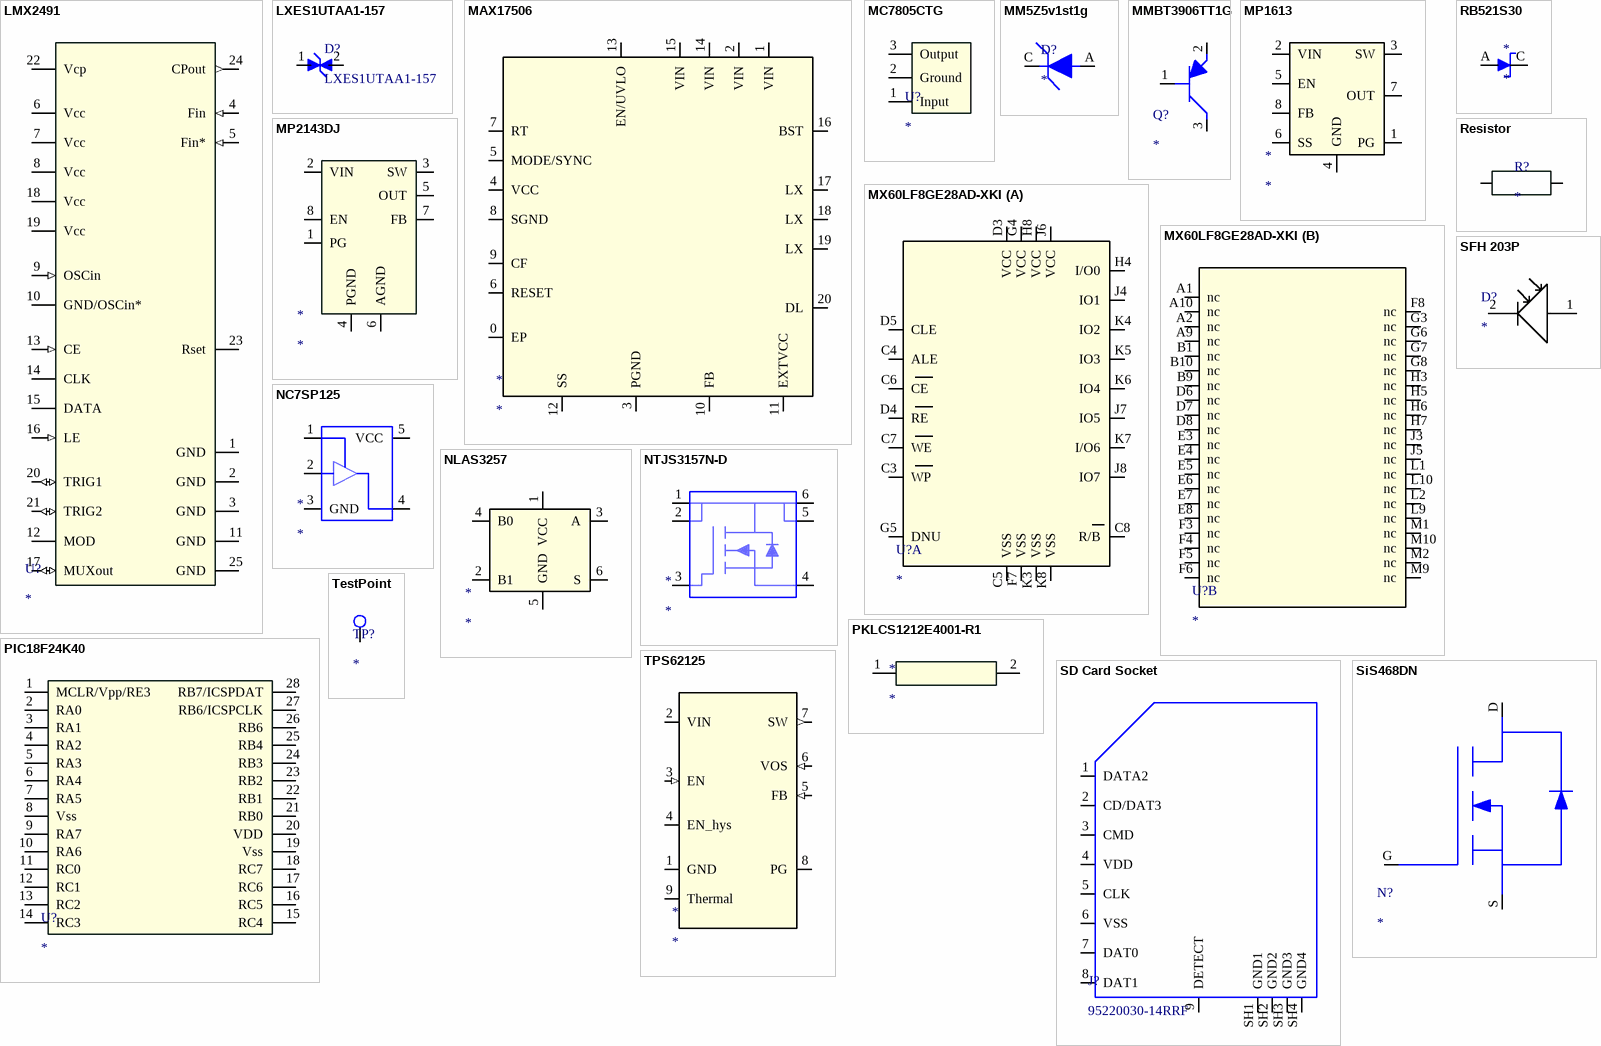
[diagram p5: symbols LMX2491 to TPS62125]

## LMX2491
designator U?
footprint WQFN24
pins: 1 GND, 2 GND, 3 GND, 4 Fin (in), 5 Fin* (in), 6 Vcc, 7 Vcc, 8 Vcc, 9 OSCin (in), 10 GND/OSCin*, 11 GND, 12 MOD, 13 CE (in), 14 CLK, 15 DATA, 16 LE (in), 17 MUXout (io), 18 Vcc, 19 Vcc, 20 TRIG1 (io), 21 TRIG2 (io), 22 Vcp, 23 Rset, 24 CPout (out), 25 GND

## LXES1UTAA1-157
designator D?
footprint DFN
pins: 1, 2

## MAX17506
designator *
footprint QFN-20
pins: 0 EP, 1 VIN, 2 VIN, 3 PGND, 4 VCC, 5 MODE/SYNC, 6 RESET, 7 RT, 8 SGND, 9 CF, 10 FB, 11 EXTVCC, 12 SS, 13 EN/UVLO, 14 VIN, 15 VIN, 16 BST, 17 LX, 18 LX, 19 LX, 20 DL

## MC7805CTG
designator U?
footprint TO220
pins: 1 Input, 2 Ground, 3 Output

## MM5Z5v1st1g
designator D?
footprint SOD-523
pins: A 2, C 1

## MMBT3906TT1G
designator Q?
footprint SOT-416
pins: 1, 2 3, 3 2

## MP1613
designator *
footprint SOT583
pins: 1 PG, 2 VIN, 3 SW, 4 GND, 5 EN, 6 SS, 7 OUT, 8 FB

## MP2143DJ
designator *
footprint TSOT23-8
pins: 1 PG, 2 VIN, 3 SW, 4 PGND, 5 OUT, 6 AGND, 7 FB, 8 EN

## MX60LF8GE28AD-XKI
designator U?
footprint VFBGA63
part A pins: C3 WP, C4 ALE, C5 VSS, C6 CE, C7 WE, C8 R/B, D3 VCC, D4 RE, D5 CLE, F7 VSS, G4 VCC, G5 DNU, H4 I/O0, H8 VCC, J4 IO1, J6 VCC, J7 IO5, J8 IO7, K3 VSS, K4 IO2, K5 IO3, K6 IO4, K7 I/O6, K8 VSS
part B pins: A1 nc, A2 nc, A9 nc, A10 nc, B1 nc, B9 nc, B10 nc, D6 nc, D7 nc, D8 nc, E3 nc, E4 nc, E5 nc, E6 nc, E7 nc, E8 nc, F3 nc, F4 nc, F5 nc, F6 nc, F8 nc, G3 nc, G6 nc, G7 nc, G8 nc, H3 nc, H5 nc, H6 nc, H7 nc, J3 nc, J5 nc, L1 nc, L2 nc, L9 nc, L10 nc, M1 nc, M2 nc, M9 nc, M10 nc

## NC7SP125
designator *
footprint SC-88A
pins: 1, 2, 3 GND, 4, 5 VCC

## NLAS3257
designator *
footprint ULLGA6
pins: 1 VCC, 2 B1, 3 A, 4 B0, 5 GND, 6 S

## NTJS3157N-D
designator *
footprint SOT-363
pins: 1, 2, 3, 4, 5, 6

## PIC18F24K40
designator U?
Microchip, 28-Pin, Low-Power, High-Performance Microcontrollers  with XLP Technology
footprint SSOP28_N (SOP, 28-Leads, Body 10.2x5.3mm, Pitch 0.65mm, IPC Medium Density)
pins: 1 MCLR/Vpp/RE3, 2 RA0, 3 RA1, 4 RA2, 5 RA3, 6 RA4, 7 RA5, 8 Vss, 9 RA7, 10 RA6, 11 RC0, 12 RC1, 13 RC2, 14 RC3, 15 RC4, 16 RC5, 17 RC6, 18 RC7, 19 Vss, 20 VDD, 21 RB0, 22 RB1, 23 RB2, 24 RB3, 25 RB4, 26 RB6, 27 RB6/ICSPCLK, 28 RB7/ICSPDAT

## PKLCS1212E4001-R1
designator *
footprint PKLCS1212E4001-R1
pins: 1 IN, 2 OUT

## RB521S30
designator *
footprint SOD-523
pins: A, C

## Resistor
designator R?
footprint Res0603
footprint ResMCU0805WS
footprint res0402
footprint res1210
footprint res2010
pins: 1 a, 2 a

## SD Card Socket
designator J?, comment 95220030-14RRF
footprint Mini SD_CARD
pins: 1 DATA2, 2 CD/DAT3, 3 CMD, 4 VDD, 5 CLK, 6 VSS, 7 DAT0, 8 DAT1, 9 DETECT, SH1 GND1, SH2 GND2, SH3 GND3, SH4 GND4

## SFH 203P
designator D?
footprint SFH 203P
pins: 1 Anode, 2 Cathode

## SiS468DN
designator N?
footprint PowerPAK 1212-8(Single)
pins: D DRAIN, G GATE, S SOURCE

## TestPoint
designator TP?
footprint TestPoint
pins: 1

## TPS62125
designator *
VIN: 3V to 17V VOUT: 1.2V to 10V
footprint WSON 2x2mm
pins: 1 GND, 2 VIN, 3 EN (in), 4 EN_hys, 5 FB (in), 6 VOS (in), 7 SW (out), 8 PG, 9 Thermal 

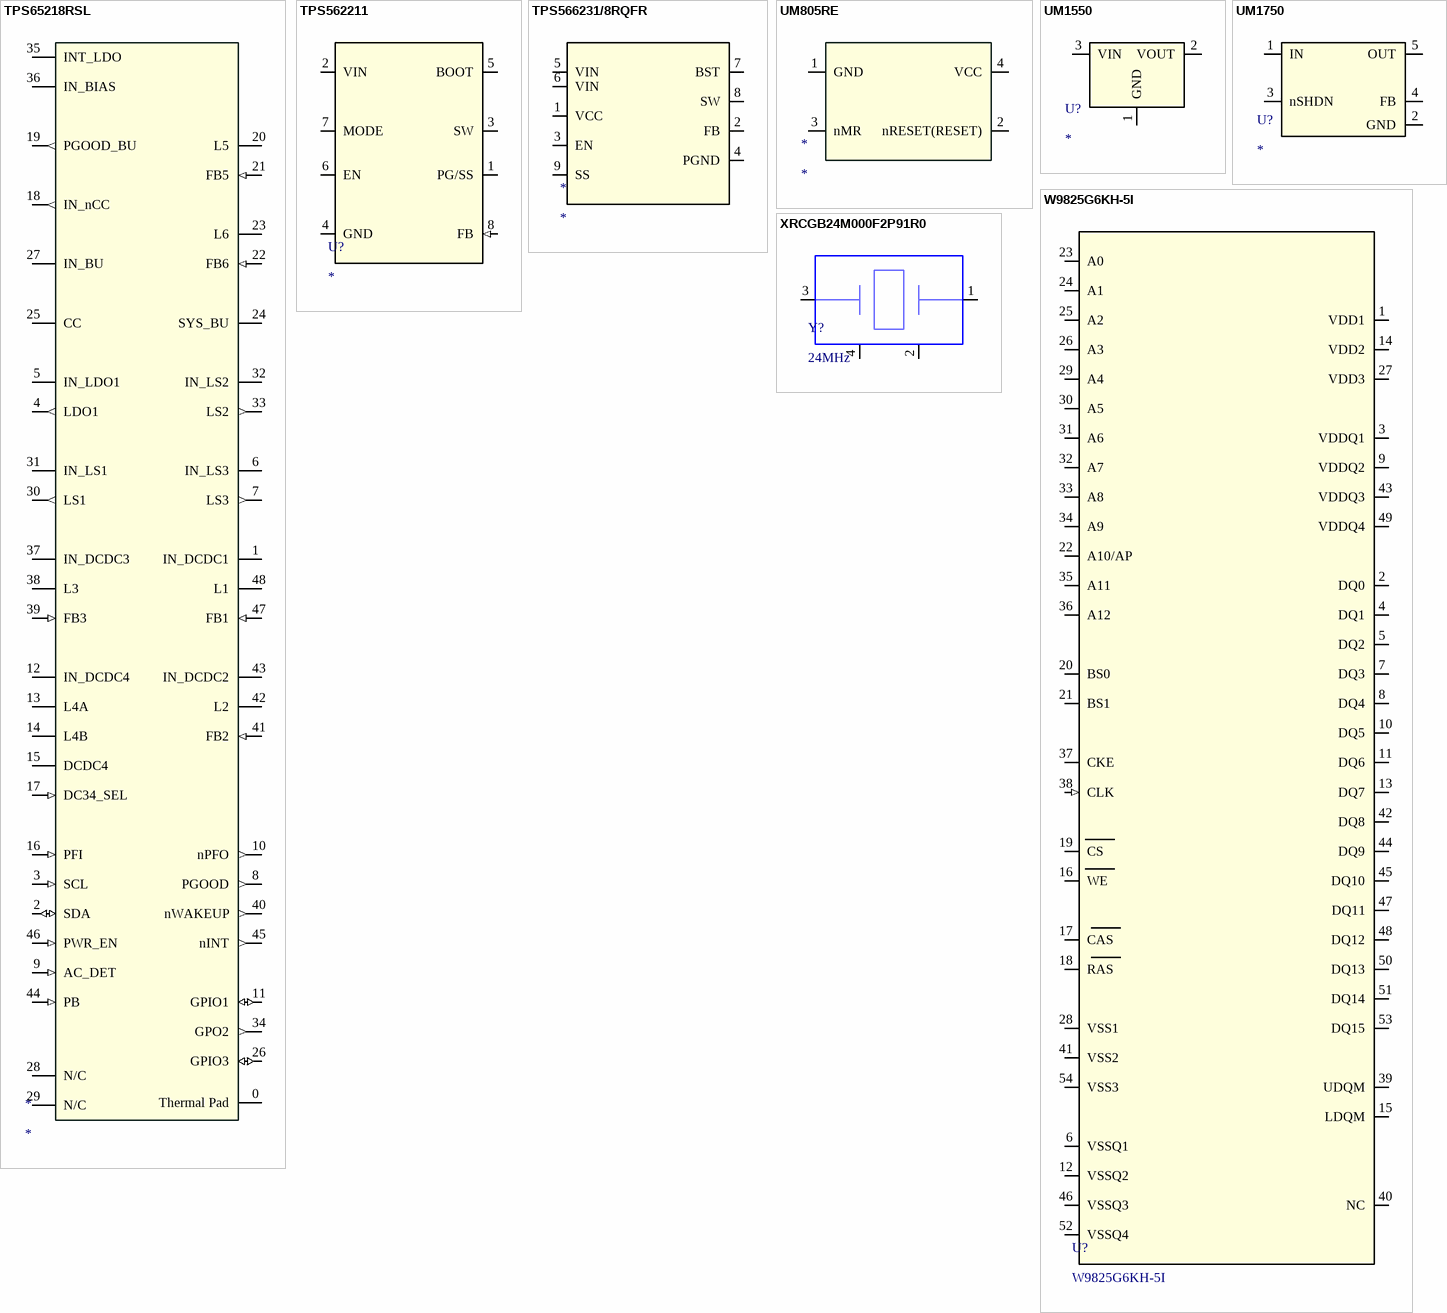
[diagram p6: symbols TPS65218RSL to XRCGB24M000F2P91R0]

## TPS65218RSL
designator *
footprint S-PQFN-N48
pins: 0 Thermal Pad, 1 IN_DCDC1, 2 SDA (io), 3 SCL (in), 4 LDO1 (out), 5 IN_LDO1, 6 IN_LS3, 7 LS3 (out), 8 PGOOD (out), 9 AC_DET (in), 10 nPFO (out), 11 GPIO1 (io), 12 IN_DCDC4, 13 L4A, 14 L4B, 15 DCDC4, 16 PFI (in), 17 DC34_SEL (in), 18 IN_nCC (out), 19 PGOOD_BU (out), 20 L5, 21 FB5 (in), 22 FB6 (in), 23 L6, 24 SYS_BU, 25 CC, 26 GPIO3 (io), 27 IN_BU, 28 N/C, 29 N/C, 30 LS1 (out), 31 IN_LS1, 32 IN_LS2, 33 LS2 (out), 34 GPO2 (out), 35 INT_LDO, 36 IN_BIAS, 37 IN_DCDC3, 38 L3, 39 FB3 (in), 40 nWAKEUP (out), 41 FB2 (in), 42 L2, 43 IN_DCDC2, 44 PB (in), 45 nINT (out), 46 PWR_EN (in), 47 FB1 (in), 48 L1

## TPS562211
designator U?
4.2V to 18V Input. 0.6V to 7V Output
footprint SOT583
pins: 1 PG/SS (io), 2 VIN, 3 SW, 4 GND, 5 BOOT, 6 EN (io), 7 MODE (io), 8 FB (in)

## TPS566231/8RQFR
designator *
footprint VQFN-HR
pins: 1 VCC, 2 FB, 3 EN, 4 PGND, 5 VIN, 6 VIN, 7 BST, 8 SW, 9 SS

## UM805RE
designator *
footprint SOT143 (SOT143, 4-Leads, Body 2,92x2,37mm, Pitch 1,90mm, IPC High Density)
pins: 1 GND, 2 nRESET(RESET), 3 nMR, 4 VCC

## UM1550
designator U?
footprint SOT23-3 (SOT23, 3 pin)
pins: 1 GND, 2 VOUT, 3 VIN

## UM1750
designator U?
footprint SOT23-5
pins: 1 IN, 2 GND, 3 nSHDN, 4 FB, 5 OUT

## W9825G6KH-5I
designator U?
SD RAM на 256Мбит = 4М*4Банка*16Битов
footprint TSOP2-54L
pins: 1 VDD1 (power), 2 DQ0 (io), 3 VDDQ1, 4 DQ1 (io), 5 DQ2 (io), 6 VSSQ1, 7 DQ3 (io), 8 DQ4 (io), 9 VDDQ2, 10 DQ5 (io), 11 DQ6 (io), 12 VSSQ2, 13 DQ7 (io), 14 VDD2 (power), 15 LDQM, 16 WE, 17 CAS, 18 RAS, 19 CS, 20 BS0, 21 BS1, 22 A10/AP, 23 A0, 24 A1, 25 A2, 26 A3, 27 VDD3 (power), 28 VSS1, 29 A4, 30 A5, 31 A6, 32 A7, 33 A8, 34 A9, 35 A11, 36 A12, 37 CKE, 38 CLK (in), 39 UDQM, 40 NC, 41 VSS2, 42 DQ8 (io), 43 VDDQ3, 44 DQ9 (io), 45 DQ10 (io), 46 VSSQ3, 47 DQ11 (io), 48 DQ12 (io), 49 VDDQ4, 50 DQ13 (io), 51 DQ14 (io), 52 VSSQ4, 53 DQ15 (io), 54 VSS3

## XRCGB24M000F2P91R0
designator Y?, comment 24MHz
footprint XRCGB24M000F2P91R0
pins: 1, 2, 3, 4